# EAGLE library part 653113124022 (library Wire-to-Board)
WR-WTB 1.25mm SMT Male Vertical Shrouded Header, 13 Pins=>Code : Con_WTB_1.25_PCB_SMT_653113124022 <http://katalog.we-online.de/media/thumbs2/eican/thb_Con_WTB_1.25_PCB_SMT_6530xx124022_pf2.psd.jpg> Details see: http://katalog.we-online.de/en/em/653_1xx_124_022 Created 2014-06-06, Karrer Zheng 2014 (C) Würth Elektronik
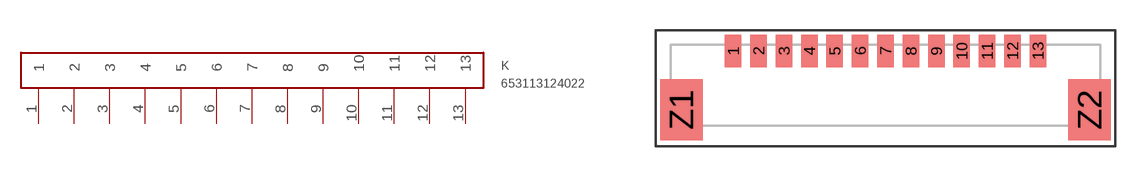
[diagram p60: symbol with the pads of 653113124022; footprint 653113124022]

Designator prefix K

## 653113124022  [653113124022]
1  1
2  2
3  3
4  4
5  5
6  6
7  7
8  8
9  9
10  10
11  11
12  12
13  13

## Footprint 653113124022 (pad centres in mm)
WR-WTB 1.25mm SMT Male Vertical Shrouded Header, 13 Pins
smd 0.81 x 1.6: 1 -0.625,0; 2 0.625,0; 3 1.875,0; 4 3.125,0; 5 4.375,0; 6 5.625,0; 7 6.875,0; 8 8.125,0; 9 9.375,0; 10 10.625,0; 11 11.875,0; 12 13.125,0; 13 14.375,0
smd 2.1 x 3: Z1 -3.175,-2.9; Z2 16.925,-2.9